# EAGLE library part INT55MX-STRAIGHT (library modules)
CT (05/03/2008): rename bpl-module to int55mx-straight
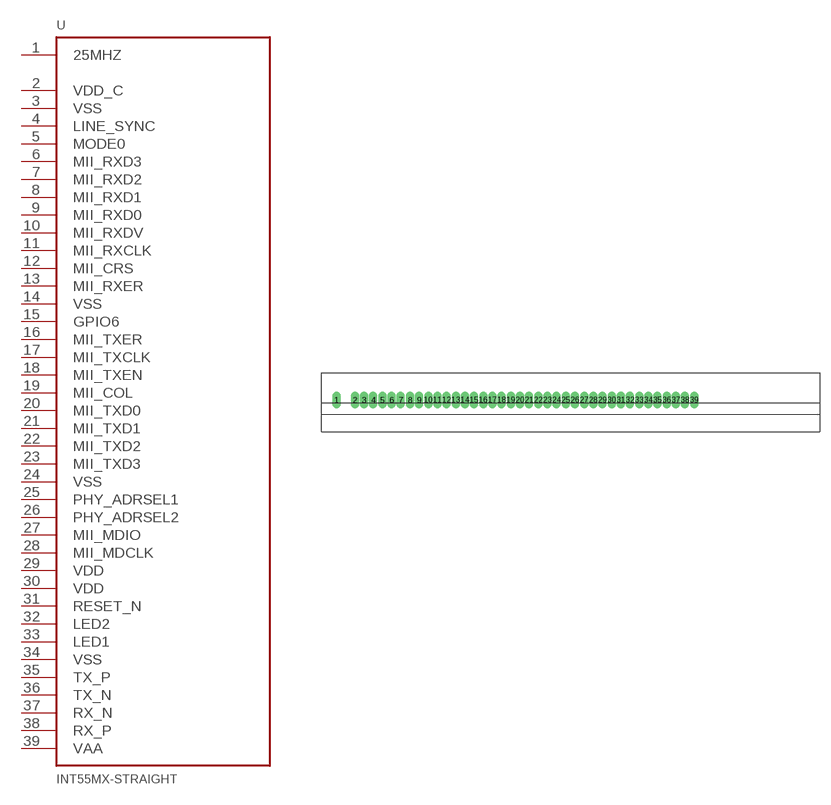
[diagram p4: symbol with the pads of INT55MX_STRAIGHT; footprint INT55MX_STRAIGHT]

Designator prefix U

## INT55MX-STRAIGHT  [INT55MX_STRAIGHT]
1  25MHZ
2  VDD_C
3  VSS
4  LINE_SYNC
5  MODE0
6  MII_RXD3
7  MII_RXD2
8  MII_RXD1
9  MII_RXD0
10  MII_RXDV
11  MII_RXCLK
12  MII_CRS
13  MII_RXER
14  VSS
15  GPIO6
16  MII_TXER
17  MII_TXCLK
18  MII_TXEN
19  MII_COL
20  MII_TXD0
21  MII_TXD1
22  MII_TXD2
23  MII_TXD3
24  VSS
25  PHY_ADRSEL1
26  PHY_ADRSEL2
27  MII_MDIO
28  MII_MDCLK
29  VDD
30  VDD
31  RESET_N
32  LED2
33  LED1
34  VSS
35  TX_P
36  TX_N
37  RX_N
38  RX_P
39  VAA

## Footprint INT55MX_STRAIGHT (pad centres in mm)
drill 0.7 pad 1.016 long: 1 -0.001,0.013; 2 2.539,0.013; 3 3.809,0.013; 4 5.079,0.013; 5 6.349,0.013; 6 7.629,0.013; 7 8.899,0.013; 8 10.169,0.013; 9 11.439,0.013; 10 12.709,0.013; 11 13.979,0.013; 12 15.249,0.013; 13 16.519,0.013; 14 17.789,0.013; 15 19.059,0.013; 16 20.329,0.013; 17 21.599,0.013; 18 22.879,0.013; 19 24.149,0.013; 20 25.419,0.013; 21 26.689,0.013; 22 27.959,0.013; 23 29.229,0.013; 24 30.499,0.013; 25 31.769,0.013; 26 33.039,0.013; 27 34.309,0.013; 28 35.579,0.013; 29 36.849,0.013; 30 38.129,0.013; 31 39.399,0.013; 32 40.669,0.013; 33 41.939,0.013; 34 43.209,0.013; 35 44.479,0.013; 36 45.749,0.013; 37 47.019,0.013; 38 48.289,0.013; 39 49.559,0.013